# Altium integrated library Esp8266_SMD.IntLib: 30 symbols
Pins are listed as number, name and electrical type; pins without a type are passive.

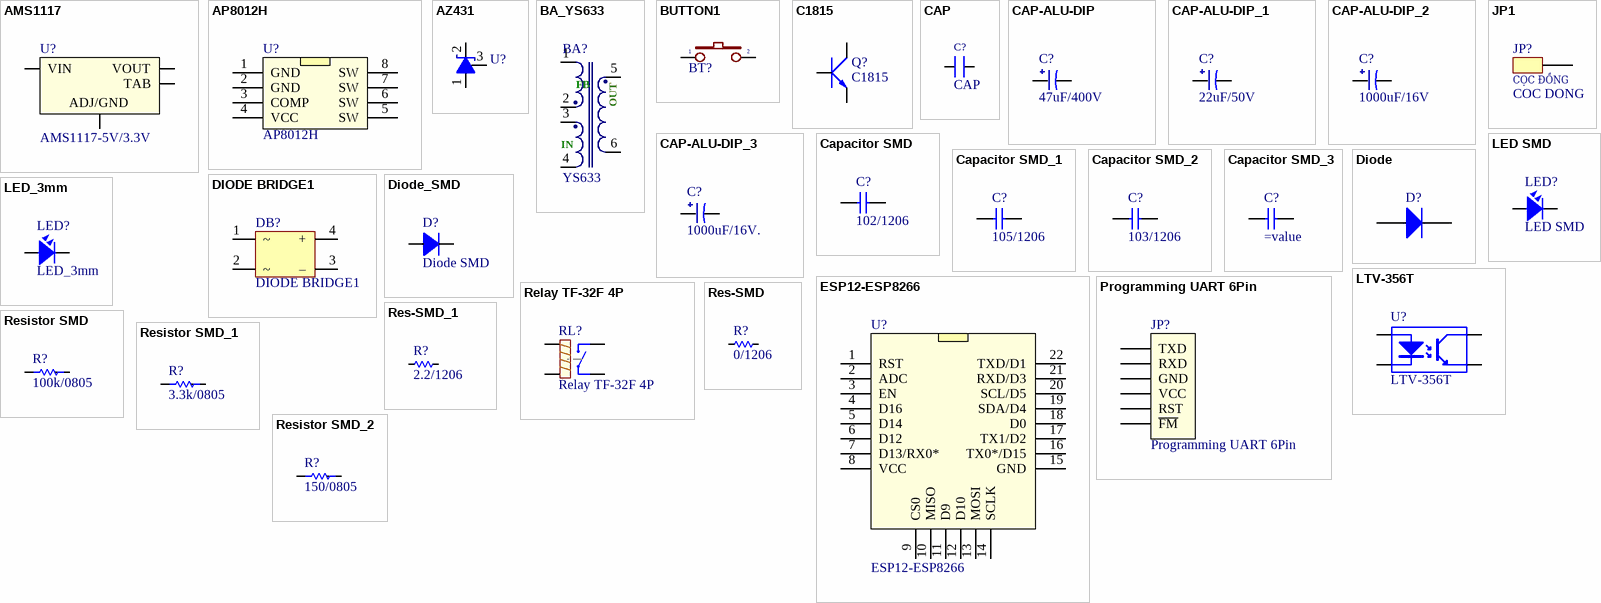
[diagram p0: symbols AMS1117 to Resistor SMD_2]

## AMS1117
designator U?, comment AMS1117-5V/3.3V
IC on ap 5V/3.3V; ComponentLink1Description: Datasheet; ComponentLink1URL: http://www.ti.com/lit/ds/symlink/lm1117.pdf
footprint SOT-223
footprint TO252-123; pin to pad 4>2
pins: 1 ADJ/GND, 2 VOUT, 3 VIN, 4 TAB

## AP8012H
designator U?
The AP8012 combines a dedicated current / mode PWM controller with a high voltage power / MOSFET on the same silicon chip. / The AP8012 is available in SOP8 and DIP8 / package.; ComponentLink1Description: Datasheet; ComponentLink1URL: https://www.electrodragon.com/w/images/2/2e/AP8012.pdf
footprint SOP-8 (SOIC, 8-Leads, Body 4.9x3.9mm, Pitch 1.27mm, IPC High Density)
pins: 1 GND (power), 2 GND (power), 3 COMP (power), 4 VCC (power), 5 SW (power), 6 SW (power), 7 SW (power), 8 SW (power)

## AZ431
designator U?  (value not drawn)
Value: 1N4007
footprint SOT23-AZ431; pin to pad 1>3 3>1
pins: 1, 2, 3

## BA_YS633
designator BA?, comment YS633
Bien ap xung YS633
footprint Transformers
pins: 1, 2, 3, 4, 5, 6
text: FB; OUT; IN

## BUTTON1
designator BT?  (value not drawn)
Value: 1N4007
footprint sw4-SMD
footprint SW4_SMD (SW SMD button 4pin, 250 x250 mil)
footprint SW4 (SW button 4pin, 250 x250 mil)
footprint SW-SMD - 3x4 (Switch SMD type)
footprint SW-SMD - 3x4x2 (Switch SMD type)
footprint SW-SMD - 3x6x4.3mm (Switch SMD type)
pins: 1, 2

## C1815
designator Q?
NPN 600mW, ECB; Value: C1815
footprint QTO-92 (TO-92)
footprint QTO-92B (TO-92)
footprint SOT23B (SOT 23B); pin to pad 1>2 2>3 3>1
pins: 1 E, 2 C, 3 B

## CAP
designator C?
Value: 0,1uF/300V; Designed by: VanDungEvn
footprint CAP-5.08
pins: 1, 2

## CAP-ALU-DIP
designator C?, comment 47uF/400V
Capacitor (Semiconductor SIM Model); Value: 104; LatestRevisionDate: 17-Jul-2002; LatestRevisionNote: Re-released for DXP Platform.; PackageReference: C1206; Publisher: Altium Limited
footprint CA-ALU-2.54
footprint CA-ALU-5 (Polarized capacitors, Aluminum Electrolytic Capacitors, 2-Leads, Body 5x11x2x0.5)
footprint CA-ALU-5B (Polarized capacitors, Aluminum Electrolytic Capacitors, 2-Leads, Body 5x11x2x0.5)
footprint CA-ALU-5L (Polarized capacitors, Aluminum Electrolytic Capacitors, 2-Leads, Body 5x11x2x0.5)
footprint CA-ALU-5R
footprint CA-ALU-5W (Tu hoa < 22uF/16>50V)
footprint CA-ALU-6.3 (Polarized capacitors, Aluminum Electrolytic Capacitors, 2-Leads, Body 6.3x15x2.5x0.5)
footprint CA-ALU-8 (Polarized capacitors, Aluminum Electrolytic Capacitors, 2-Leads, Body 8x16x3.5x0.5)
footprint CA-ALU-8R (Polarized capacitors, Aluminum Electrolytic Capacitors, 2-Leads, Body 8x16x3.5x0.5)
footprint CA-ALU-10 (Polarized capacitors, Aluminum Electrolytic Capacitors, 2-Leads, Body 10x20x5x0.6)
footprint CA-ALU-10R (Polarized capacitors, Aluminum Electrolytic Capacitors, 2-Leads, Body 10x20x5x0.6)
footprint CA-ALU-10RL (Polarized capacitors, Aluminum Electrolytic Capacitors, 2-Leads, Body 10x20x5x0.6)
footprint CA-ALU-13BL (Polarized capacitors, Aluminum Electrolytic Capacitors, 2-Leads, Body 13x35x5x0.6)
footprint CA-ALU-13R (Polarized capacitors, Aluminum Electrolytic Capacitors, 2-Leads, Body 13x35x5x0.6)
footprint CA-ALU-16 (Polarized capacitors, Aluminum Electrolytic Capacitors, 2-Leads, Body 16x21x7.5x0.8)
footprint CA-ALU-16H (Polarized capacitors, Aluminum Electrolytic Capacitors, 2-Leads, Body 16x31.5x7.5x0.8)
footprint CA-ALU-18 (Polarized capacitors, Aluminum Electrolytic Capacitors, 2-Leads, Body 18x35.5x7.5x0.8)
footprint CA-ALU-18BL (Polarized capacitors, Aluminum Electrolytic Capacitors, 2-Leads, Body 18x35.5x7.5x0.8)
footprint CA-ALU-18RH (Polarized capacitors, Aluminum Electrolytic Capacitors, 2-Leads, Body 18x35.5x7.5x0.8)
footprint CA-ALU-25 (Polarized capacitors, Aluminum Electrolytic Capacitors, 2-Leads, Body 22x41x10x0.8)
footprint CA-ALU-28 (Polarized capacitors, Aluminum Electrolytic Capacitors, 2-Leads, Body 22x41x10x0.8)
footprint CA-ALU-30 (Polarized capacitors, Aluminum Electrolytic Capacitors, 2-Leads, Body 22x41x10x0.8)
footprint CA-ALU-35L (Polarized capacitors, Aluminum Electrolytic Capacitors, 2-Leads, Body 22x41x10x0.8)
footprint CA-ALU-4 (Polarized capacitors, Aluminum Electrolytic Capacitors, 2-Leads, Body 5x11x2x0.5)
footprint CA-ALU-6.3R (Polarized capacitors, Aluminum Electrolytic Capacitors, 2-Leads, Body 6.3x15x2.5x0.5)
footprint CA-ALU-10BL (Polarized capacitors, Aluminum Electrolytic Capacitors, 2-Leads, Body 10x20x5x0.6)
footprint CA-ALU-10GR (Polarized capacitors, Aluminum Electrolytic Capacitors, 2-Leads, Body 10x20x5x0.6)
footprint CA-ALU-18R (Polarized capacitors, Aluminum Electrolytic Capacitors, 2-Leads, Body 18x35.5x7.5x0.8)
footprint CA-ALU-28R (Polarized capacitors, Aluminum Electrolytic Capacitors, 2-Leads, Body 22x41x10x0.8)
footprint CA-ALU-2.0mm
pins: 1, 2

## CAP-ALU-DIP_1
designator C?, comment 22uF/50V
Capacitor (Semiconductor SIM Model); Value: 104; LatestRevisionDate: 17-Jul-2002; LatestRevisionNote: Re-released for DXP Platform.; PackageReference: C1206; Publisher: Altium Limited
footprint CA-ALU-2.54
footprint CA-ALU-5 (Polarized capacitors, Aluminum Electrolytic Capacitors, 2-Leads, Body 5x11x2x0.5)
footprint CA-ALU-5B (Polarized capacitors, Aluminum Electrolytic Capacitors, 2-Leads, Body 5x11x2x0.5)
footprint CA-ALU-5L (Polarized capacitors, Aluminum Electrolytic Capacitors, 2-Leads, Body 5x11x2x0.5)
footprint CA-ALU-5R
footprint CA-ALU-5W (Tu hoa < 22uF/16>50V)
footprint CA-ALU-6.3 (Polarized capacitors, Aluminum Electrolytic Capacitors, 2-Leads, Body 6.3x15x2.5x0.5)
footprint CA-ALU-8 (Polarized capacitors, Aluminum Electrolytic Capacitors, 2-Leads, Body 8x16x3.5x0.5)
footprint CA-ALU-8R (Polarized capacitors, Aluminum Electrolytic Capacitors, 2-Leads, Body 8x16x3.5x0.5)
footprint CA-ALU-10 (Polarized capacitors, Aluminum Electrolytic Capacitors, 2-Leads, Body 10x20x5x0.6)
footprint CA-ALU-10R (Polarized capacitors, Aluminum Electrolytic Capacitors, 2-Leads, Body 10x20x5x0.6)
footprint CA-ALU-10RL (Polarized capacitors, Aluminum Electrolytic Capacitors, 2-Leads, Body 10x20x5x0.6)
footprint CA-ALU-13BL (Polarized capacitors, Aluminum Electrolytic Capacitors, 2-Leads, Body 13x35x5x0.6)
footprint CA-ALU-13R (Polarized capacitors, Aluminum Electrolytic Capacitors, 2-Leads, Body 13x35x5x0.6)
footprint CA-ALU-16 (Polarized capacitors, Aluminum Electrolytic Capacitors, 2-Leads, Body 16x21x7.5x0.8)
footprint CA-ALU-16H (Polarized capacitors, Aluminum Electrolytic Capacitors, 2-Leads, Body 16x31.5x7.5x0.8)
footprint CA-ALU-18 (Polarized capacitors, Aluminum Electrolytic Capacitors, 2-Leads, Body 18x35.5x7.5x0.8)
footprint CA-ALU-18BL (Polarized capacitors, Aluminum Electrolytic Capacitors, 2-Leads, Body 18x35.5x7.5x0.8)
footprint CA-ALU-18RH (Polarized capacitors, Aluminum Electrolytic Capacitors, 2-Leads, Body 18x35.5x7.5x0.8)
footprint CA-ALU-25 (Polarized capacitors, Aluminum Electrolytic Capacitors, 2-Leads, Body 22x41x10x0.8)
footprint CA-ALU-28 (Polarized capacitors, Aluminum Electrolytic Capacitors, 2-Leads, Body 22x41x10x0.8)
footprint CA-ALU-30 (Polarized capacitors, Aluminum Electrolytic Capacitors, 2-Leads, Body 22x41x10x0.8)
footprint CA-ALU-35L (Polarized capacitors, Aluminum Electrolytic Capacitors, 2-Leads, Body 22x41x10x0.8)
footprint CA-ALU-4 (Polarized capacitors, Aluminum Electrolytic Capacitors, 2-Leads, Body 5x11x2x0.5)
footprint CA-ALU-6.3R (Polarized capacitors, Aluminum Electrolytic Capacitors, 2-Leads, Body 6.3x15x2.5x0.5)
footprint CA-ALU-10BL (Polarized capacitors, Aluminum Electrolytic Capacitors, 2-Leads, Body 10x20x5x0.6)
footprint CA-ALU-10GR (Polarized capacitors, Aluminum Electrolytic Capacitors, 2-Leads, Body 10x20x5x0.6)
footprint CA-ALU-18R (Polarized capacitors, Aluminum Electrolytic Capacitors, 2-Leads, Body 18x35.5x7.5x0.8)
footprint CA-ALU-28R (Polarized capacitors, Aluminum Electrolytic Capacitors, 2-Leads, Body 22x41x10x0.8)
footprint CA-ALU-2.0mm
pins: 1, 2

## CAP-ALU-DIP_2
designator C?, comment 1000uF/16V
Capacitor (Semiconductor SIM Model); Value: 104; LatestRevisionDate: 17-Jul-2002; LatestRevisionNote: Re-released for DXP Platform.; PackageReference: C1206; Publisher: Altium Limited
footprint CA-ALU-2.54
footprint CA-ALU-5 (Polarized capacitors, Aluminum Electrolytic Capacitors, 2-Leads, Body 5x11x2x0.5)
footprint CA-ALU-5B (Polarized capacitors, Aluminum Electrolytic Capacitors, 2-Leads, Body 5x11x2x0.5)
footprint CA-ALU-5L (Polarized capacitors, Aluminum Electrolytic Capacitors, 2-Leads, Body 5x11x2x0.5)
footprint CA-ALU-5R
footprint CA-ALU-5W (Tu hoa < 22uF/16>50V)
footprint CA-ALU-6.3 (Polarized capacitors, Aluminum Electrolytic Capacitors, 2-Leads, Body 6.3x15x2.5x0.5)
footprint CA-ALU-8 (Polarized capacitors, Aluminum Electrolytic Capacitors, 2-Leads, Body 8x16x3.5x0.5)
footprint CA-ALU-8R (Polarized capacitors, Aluminum Electrolytic Capacitors, 2-Leads, Body 8x16x3.5x0.5)
footprint CA-ALU-10 (Polarized capacitors, Aluminum Electrolytic Capacitors, 2-Leads, Body 10x20x5x0.6)
footprint CA-ALU-10R (Polarized capacitors, Aluminum Electrolytic Capacitors, 2-Leads, Body 10x20x5x0.6)
footprint CA-ALU-10RL (Polarized capacitors, Aluminum Electrolytic Capacitors, 2-Leads, Body 10x20x5x0.6)
footprint CA-ALU-13BL (Polarized capacitors, Aluminum Electrolytic Capacitors, 2-Leads, Body 13x35x5x0.6)
footprint CA-ALU-13R (Polarized capacitors, Aluminum Electrolytic Capacitors, 2-Leads, Body 13x35x5x0.6)
footprint CA-ALU-16 (Polarized capacitors, Aluminum Electrolytic Capacitors, 2-Leads, Body 16x21x7.5x0.8)
footprint CA-ALU-16H (Polarized capacitors, Aluminum Electrolytic Capacitors, 2-Leads, Body 16x31.5x7.5x0.8)
footprint CA-ALU-18 (Polarized capacitors, Aluminum Electrolytic Capacitors, 2-Leads, Body 18x35.5x7.5x0.8)
footprint CA-ALU-18BL (Polarized capacitors, Aluminum Electrolytic Capacitors, 2-Leads, Body 18x35.5x7.5x0.8)
footprint CA-ALU-18RH (Polarized capacitors, Aluminum Electrolytic Capacitors, 2-Leads, Body 18x35.5x7.5x0.8)
footprint CA-ALU-25 (Polarized capacitors, Aluminum Electrolytic Capacitors, 2-Leads, Body 22x41x10x0.8)
footprint CA-ALU-28 (Polarized capacitors, Aluminum Electrolytic Capacitors, 2-Leads, Body 22x41x10x0.8)
footprint CA-ALU-30 (Polarized capacitors, Aluminum Electrolytic Capacitors, 2-Leads, Body 22x41x10x0.8)
footprint CA-ALU-35L (Polarized capacitors, Aluminum Electrolytic Capacitors, 2-Leads, Body 22x41x10x0.8)
footprint CA-ALU-4 (Polarized capacitors, Aluminum Electrolytic Capacitors, 2-Leads, Body 5x11x2x0.5)
footprint CA-ALU-6.3R (Polarized capacitors, Aluminum Electrolytic Capacitors, 2-Leads, Body 6.3x15x2.5x0.5)
footprint CA-ALU-10BL (Polarized capacitors, Aluminum Electrolytic Capacitors, 2-Leads, Body 10x20x5x0.6)
footprint CA-ALU-10GR (Polarized capacitors, Aluminum Electrolytic Capacitors, 2-Leads, Body 10x20x5x0.6)
footprint CA-ALU-18R (Polarized capacitors, Aluminum Electrolytic Capacitors, 2-Leads, Body 18x35.5x7.5x0.8)
footprint CA-ALU-28R (Polarized capacitors, Aluminum Electrolytic Capacitors, 2-Leads, Body 22x41x10x0.8)
footprint CA-ALU-2.0mm
pins: 1, 2

## CAP-ALU-DIP_3
designator C?, comment 1000uF/16V.
Capacitor (Semiconductor SIM Model); Value: 104; LatestRevisionDate: 17-Jul-2002; LatestRevisionNote: Re-released for DXP Platform.; PackageReference: C1206; Publisher: Altium Limited
footprint CA-ALU-2.54
footprint CA-ALU-5 (Polarized capacitors, Aluminum Electrolytic Capacitors, 2-Leads, Body 5x11x2x0.5)
footprint CA-ALU-5B (Polarized capacitors, Aluminum Electrolytic Capacitors, 2-Leads, Body 5x11x2x0.5)
footprint CA-ALU-5L (Polarized capacitors, Aluminum Electrolytic Capacitors, 2-Leads, Body 5x11x2x0.5)
footprint CA-ALU-5R
footprint CA-ALU-5W (Tu hoa < 22uF/16>50V)
footprint CA-ALU-6.3 (Polarized capacitors, Aluminum Electrolytic Capacitors, 2-Leads, Body 6.3x15x2.5x0.5)
footprint CA-ALU-8 (Polarized capacitors, Aluminum Electrolytic Capacitors, 2-Leads, Body 8x16x3.5x0.5)
footprint CA-ALU-8R (Polarized capacitors, Aluminum Electrolytic Capacitors, 2-Leads, Body 8x16x3.5x0.5)
footprint CA-ALU-10 (Polarized capacitors, Aluminum Electrolytic Capacitors, 2-Leads, Body 10x20x5x0.6)
footprint CA-ALU-10R (Polarized capacitors, Aluminum Electrolytic Capacitors, 2-Leads, Body 10x20x5x0.6)
footprint CA-ALU-10RL (Polarized capacitors, Aluminum Electrolytic Capacitors, 2-Leads, Body 10x20x5x0.6)
footprint CA-ALU-13BL (Polarized capacitors, Aluminum Electrolytic Capacitors, 2-Leads, Body 13x35x5x0.6)
footprint CA-ALU-13R (Polarized capacitors, Aluminum Electrolytic Capacitors, 2-Leads, Body 13x35x5x0.6)
footprint CA-ALU-16 (Polarized capacitors, Aluminum Electrolytic Capacitors, 2-Leads, Body 16x21x7.5x0.8)
footprint CA-ALU-16H (Polarized capacitors, Aluminum Electrolytic Capacitors, 2-Leads, Body 16x31.5x7.5x0.8)
footprint CA-ALU-18 (Polarized capacitors, Aluminum Electrolytic Capacitors, 2-Leads, Body 18x35.5x7.5x0.8)
footprint CA-ALU-18BL (Polarized capacitors, Aluminum Electrolytic Capacitors, 2-Leads, Body 18x35.5x7.5x0.8)
footprint CA-ALU-18RH (Polarized capacitors, Aluminum Electrolytic Capacitors, 2-Leads, Body 18x35.5x7.5x0.8)
footprint CA-ALU-25 (Polarized capacitors, Aluminum Electrolytic Capacitors, 2-Leads, Body 22x41x10x0.8)
footprint CA-ALU-28 (Polarized capacitors, Aluminum Electrolytic Capacitors, 2-Leads, Body 22x41x10x0.8)
footprint CA-ALU-30 (Polarized capacitors, Aluminum Electrolytic Capacitors, 2-Leads, Body 22x41x10x0.8)
footprint CA-ALU-35L (Polarized capacitors, Aluminum Electrolytic Capacitors, 2-Leads, Body 22x41x10x0.8)
footprint CA-ALU-4 (Polarized capacitors, Aluminum Electrolytic Capacitors, 2-Leads, Body 5x11x2x0.5)
footprint CA-ALU-6.3R (Polarized capacitors, Aluminum Electrolytic Capacitors, 2-Leads, Body 6.3x15x2.5x0.5)
footprint CA-ALU-10BL (Polarized capacitors, Aluminum Electrolytic Capacitors, 2-Leads, Body 10x20x5x0.6)
footprint CA-ALU-10GR (Polarized capacitors, Aluminum Electrolytic Capacitors, 2-Leads, Body 10x20x5x0.6)
footprint CA-ALU-18R (Polarized capacitors, Aluminum Electrolytic Capacitors, 2-Leads, Body 18x35.5x7.5x0.8)
footprint CA-ALU-28R (Polarized capacitors, Aluminum Electrolytic Capacitors, 2-Leads, Body 22x41x10x0.8)
footprint CA-ALU-2.0mm
pins: 1, 2

## Capacitor SMD
designator C?, comment 102/1206
Capacitor SMD 0402 - 1206
footprint SM-CAP-0402
footprint SM-CAP-0603
footprint SM-CAP-0805
footprint SM-Cap-1206
footprint SM-CAP-3225 (Chip Capacitor, Body 3.2x2.5mm, IPC Medium Density)
pins: 1, 2

## Capacitor SMD_1
designator C?, comment 105/1206
Capacitor SMD 0402 - 1206
footprint SM-CAP-0402
footprint SM-CAP-0603
footprint SM-CAP-0805
footprint SM-Cap-1206
footprint SM-CAP-3225 (Chip Capacitor, Body 3.2x2.5mm, IPC Medium Density)
pins: 1, 2

## Capacitor SMD_2
designator C?, comment 103/1206
Capacitor SMD 0402 - 1206
footprint SM-CAP-0402
footprint SM-CAP-0603
footprint SM-CAP-0805
footprint SM-Cap-1206
footprint SM-CAP-3225 (Chip Capacitor, Body 3.2x2.5mm, IPC Medium Density)
pins: 1, 2

## Capacitor SMD_3
designator C?
Capacitor SMD 0402 - 1206
footprint SM-CAP-0402
footprint SM-CAP-0603
footprint SM-CAP-0805
footprint SM-Cap-1206
footprint SM-CAP-3225 (Chip Capacitor, Body 3.2x2.5mm, IPC Medium Density)
pins: 1, 2

## Diode
designator D?  (value not drawn)
Default Diode; Code - JEDEC: DO-214-AB; Value: 1N5007; Published: 8-Jun-2000; Revision: July-2002: Re-released for DXP Platform.; Publisher: Altium Limited
footprint D5AN (Diode 5A, W 200mil, L 250mil)
simulation model DIODE (Diode)
signal-integrity model Diode
pins: 1 A, 2 K

## DIODE BRIDGE1
designator DB?
footprint DB-ABS (SMD)
footprint DB-MBS (SMD)
footprint DB107-DIP
footprint DB107-SMD
footprint DB-2W10 (DIP)
pins: 1 ~, 2 ~, 3 –, 4 +

## Diode_SMD
designator D?, comment Diode SMD
footprint SOD-123
footprint SOD-323 (diode T4-SOD232)
footprint SOD-106
pins: 1, 2

## ESP12-ESP8266
designator U?
ESP12
footprint ESP12_type1 (ESP8266 ESP12)
footprint ESP12_type2 (ESP8266 ESP12)
pins: 1 RST, 2 ADC, 3 EN, 4 D16, 5 D14, 6 D12, 7 D13/RX0*, 8 VCC, 9 CS0, 10 MISO, 11 D9, 12 D10, 13 MOSI, 14 SCLK, 15 GND, 16 TX0*/D15, 17 TX1/D2, 18 D0, 19 SDA/D4, 20 SCL/D5, 21 RXD/D3, 22 TXD/D1

## JP1
designator JP?, comment COC DONG
footprint COC-DONG
pins: 1
text: CỌC ĐỒNG

## LED SMD
designator LED?
footprint LED-0805-Blue
footprint LED-0805-Green
footprint LED-0805-Orange
footprint LED-0805-Red
footprint LED-0805-Yellow
pins: 1, 2

## LED_3mm
designator LED?
footprint LED-3 (LED 2 PIN, 3ly Only colour)
pins: 1, 2

## LTV-356T
designator U?
Photocuper LTV-356T
footprint LTV-356T
pins: 1 A "Anode", 2 K "Cathode", 3 E "Emitter", 4 C "Collector"

## Programming UART 6Pin
designator JP?
Programming SWD
footprint JP6 2.54 No3D
pins: 1 TXD, 2 RXD, 3 GND, 4 VCC, 5 RST, 6 ~{FM}

## Relay TF-32F 4P
designator RL?
5A 10A switching capabilities. / SPSTNO and SPDT(B-M) configurations. / Subminiature, standard PC layout. / Sealed & Unsealed types available.; ComponentLink1Description: Relay TENGFEI; ComponentLink1URL: http://www.spike-components.com/Upload/down/RELAY.pdf
footprint RELAY TENGFEI TF-32F 4P
pins: 1, 2, 4, 5

## Res-SMD
designator R?, comment 0/1206
Resistor; Manufacturer: Generic Components; Class: Passive; Published: 08/06/2000; Publisher: Altium Hobart Technology Centre
footprint RES-SMD-0101
footprint RES-SMD-0201
footprint RES-SMD-0603
footprint RES-SMD-0805
footprint RES-SMD-1206
footprint RES-SMD-1210 (Chip Capacitor, Body 3.2x2.5mm, IPC Medium Density)
footprint RES-SMD-1812 (Chip Capacitor, Body 3.2x2.5mm, IPC Medium Density)
footprint RES-SMD-2010 (Chip Capacitor, Body 3.2x2.5mm, IPC Medium Density)
footprint RES-SMD-2512 (Chip Capacitor, Body 3.2x2.5mm, IPC Medium Density)
footprint RES-SMD-0402
pins: 1, 2

## Res-SMD_1
designator R?, comment 2.2/1206
Resistor; Manufacturer: Generic Components; Class: Passive; Published: 08/06/2000; Publisher: Altium Hobart Technology Centre
footprint RES-SMD-0101
footprint RES-SMD-0201
footprint RES-SMD-0603
footprint RES-SMD-0805
footprint RES-SMD-1206
footprint RES-SMD-1210 (Chip Capacitor, Body 3.2x2.5mm, IPC Medium Density)
footprint RES-SMD-1812 (Chip Capacitor, Body 3.2x2.5mm, IPC Medium Density)
footprint RES-SMD-2010 (Chip Capacitor, Body 3.2x2.5mm, IPC Medium Density)
footprint RES-SMD-2512 (Chip Capacitor, Body 3.2x2.5mm, IPC Medium Density)
footprint RES-SMD-0402
pins: 1, 2

## Resistor SMD
designator R?, comment 100k/0805
Res SMD
footprint SM-RES-0805
footprint SM-RES-1206
footprint SM-RES-3225 (Chip Capacitor, Body 3.2x2.5mm, IPC Medium Density)
footprint SM-RES-0603
footprint SM-RES-0402
footprint SM-RES-0201
footprint SM-RES-0101
pins: 1, 2

## Resistor SMD_1
designator R?, comment 3.3k/0805
Res SMD
footprint SM-RES-0805
footprint SM-RES-1206
footprint SM-RES-3225 (Chip Capacitor, Body 3.2x2.5mm, IPC Medium Density)
footprint SM-RES-0603
footprint SM-RES-0402
footprint SM-RES-0201
footprint SM-RES-0101
pins: 1, 2

## Resistor SMD_2
designator R?, comment 150/0805
Res SMD
footprint SM-RES-0805
footprint SM-RES-1206
footprint SM-RES-3225 (Chip Capacitor, Body 3.2x2.5mm, IPC Medium Density)
footprint SM-RES-0603
footprint SM-RES-0402
footprint SM-RES-0201
footprint SM-RES-0101
pins: 1, 2